# Altium schematic symbol library 532614002.SchLib: 1 symbol
Pins are listed as number, name and electrical type; pins without a type are passive.

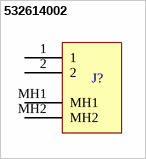
[diagram p0: symbol 532614002]

## 532614002
designator J?  (value not drawn)
Molex Picoblade $2-pin connector
pins: 1, 2, MH1 (power), MH2 (power)